# Altium footprint library Phoenix.PcbLib: 19 footprints (part 1 of 2)
Each footprint in its own frame and in the unit in brackets; x right, y up, seen from the top. Pads: shape width x height; smd on the part's side, far side on the other; paste and mask are expansions set on the pad; w line width, h text height; cw(c..) or ccw(c..) is an arc to the next point about the centre after c.
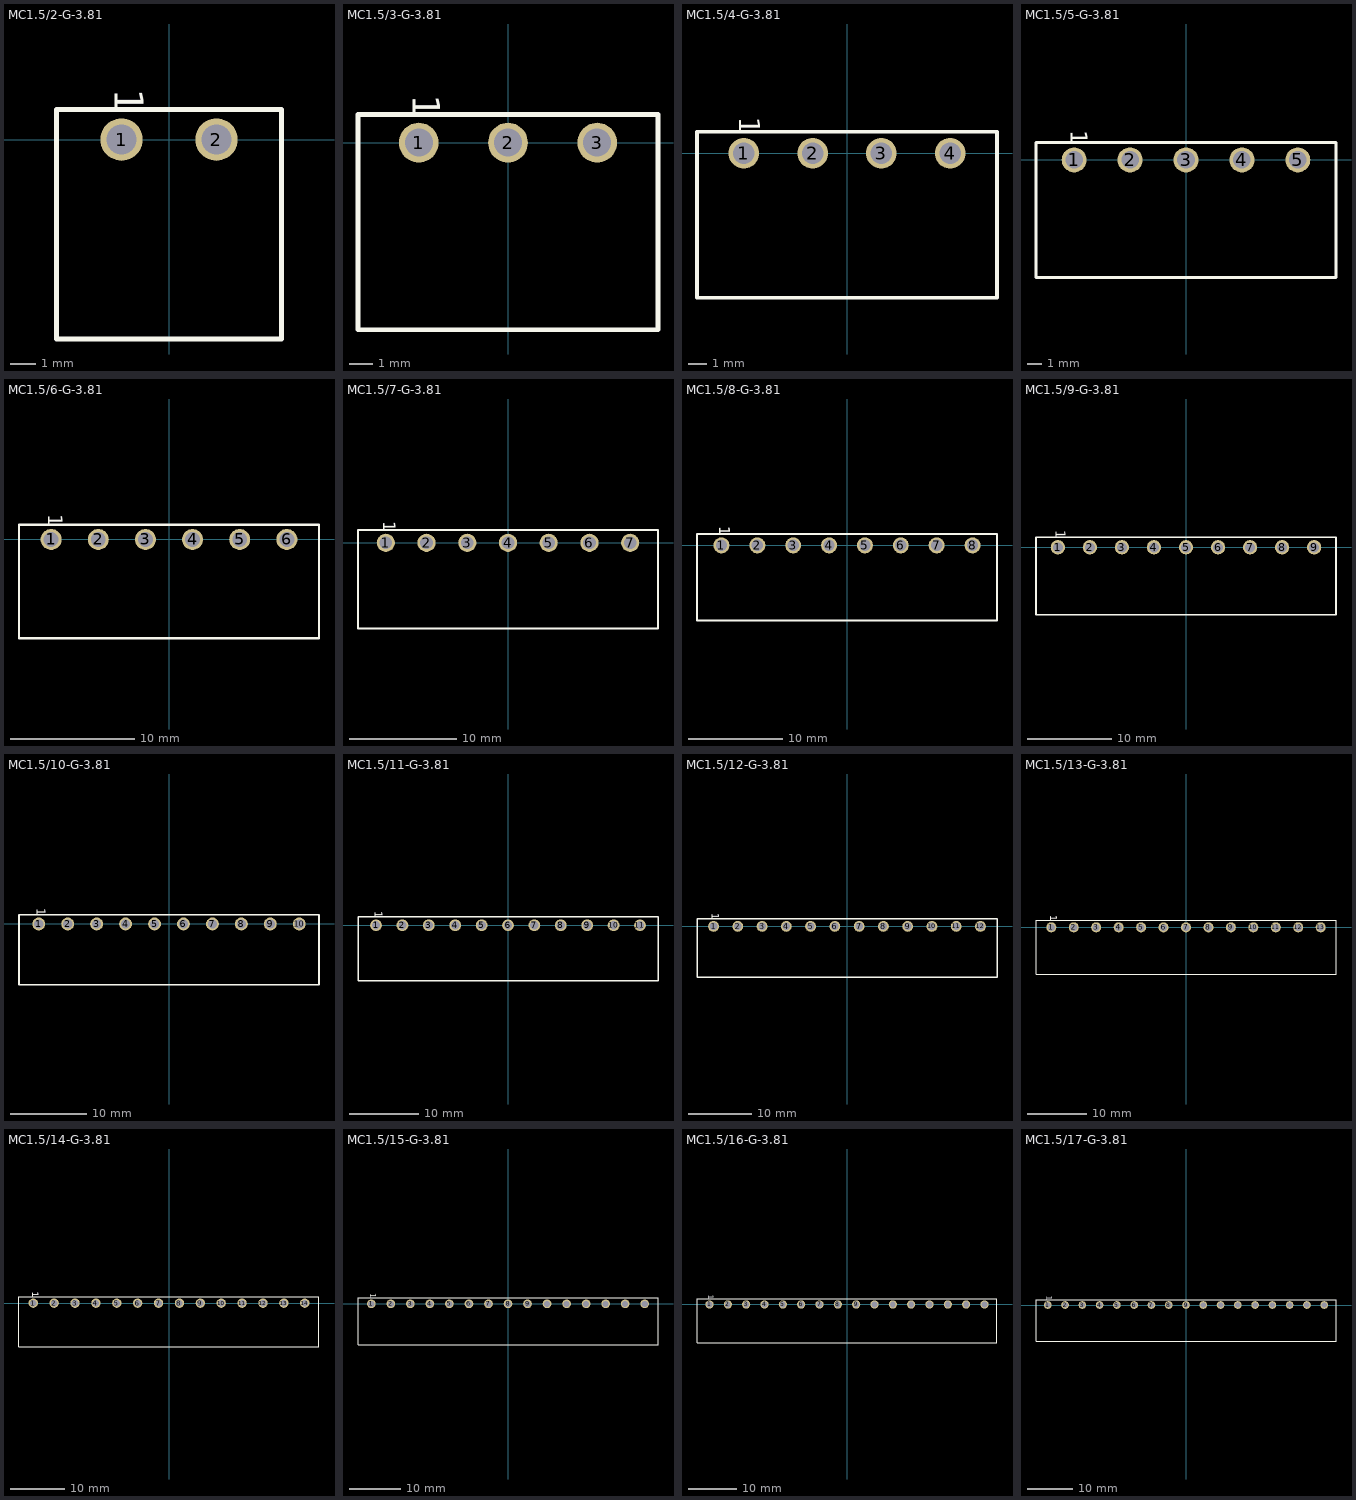
[diagram p0: the footprints below, top view; thin cyan lines are the x and y axes]

## MC1.5/2-G-3.81 [mm] "Phoenix contact MC 1,5/ 2-G-3,81"
pads (2):
  round 1.7 hole 1.2: 1(-1.905,0) 2(1.905,0)
Top Overlay:
  lines w0.2: -4.505,-8 -4.505,1.2 -3.81,1.2 0,1.2 3.81,1.2 4.505,1.2 4.505,-8 3.81,-8 0,-8 -3.81,-8 -4.505,-8
  text "1" at -2.548,2.036 h2
Bottom Overlay:
  text "1" at -2.548,1.064 h2
3D body: height 7.25, standoff 0, extent -4.505,-8 -3.81,1.2
3D body: height 7.25, standoff 0, extent -3.81,-1 0,1.2
3D body: height 7.26, standoff 0.01, extent -3.81,-8 0,-1
3D body: height 7.25, standoff 0, extent 3.81,-8 4.505,1.2
3D body: height 7.25, standoff 0, extent 0,-1 3.81,1.2
3D body: height 3.4, standoff 2.6, extent 1.505,-7 2.305,0.4
3D body: height 3.4, standoff 2.6, extent -2.305,-7 -1.505,0.4
3D body: height 3, standoff -3.4, extent 1.505,-0.4 2.305,0.4
3D body: height 3, standoff -3.4, extent -2.305,-0.4 -1.505,0.4
3D body: height 7.26, standoff 0.01, extent 0,-8 3.81,-1

## MC1.5/3-G-3.81 [mm] "Phoenix contact MC 1,5/ 3-G-3,81"
pads (3):
  round 1.7 hole 1.2: 1(-3.81,0) 2(0,0) 3(3.81,0)
Top Overlay:
  lines w0.2: -6.41,-8 -6.41,1.2 -5.715,1.2 -1.905,1.2 1.905,1.2 5.715,1.2 6.41,1.2 6.41,-8 5.715,-8 1.905,-8 -1.905,-8 -5.715,-8 -6.41,-8
  text "1" at -4.453,2.036 h2
Bottom Overlay:
  text "1" at -4.453,1.064 h2
3D body: height 7.25, standoff 0, extent -6.41,-8 -5.715,1.2
3D body: height 7.25, standoff 0, extent -5.715,-1 -1.905,1.2
3D body: height 7.26, standoff 0.01, extent -5.715,-8 -1.905,-1
3D body: height 7.25, standoff 0, extent 5.715,-8 6.41,1.2
3D body: height 7.25, standoff 0, extent -1.905,-1 1.905,1.2
3D body: height 3.4, standoff 2.6, extent -0.4,-7 0.4,0.4
3D body: height 3.4, standoff 2.6, extent -4.21,-7 -3.41,0.4
3D body: height 3, standoff -3.4, extent -0.4,-0.4 0.4,0.4
3D body: height 3, standoff -3.4, extent -4.21,-0.4 -3.41,0.4
3D body: height 7.26, standoff 0.01, extent -1.905,-8 1.905,-1
3D body: height 7.25, standoff 0, extent 1.905,-1 5.715,1.2
3D body: height 3.4, standoff 2.6, extent 3.41,-7 4.21,0.4
3D body: height 3, standoff -3.4, extent 3.41,-0.4 4.21,0.4
3D body: height 7.26, standoff 0.01, extent 1.905,-8 5.715,-1

## MC1.5/4-G-3.81 [mm] "Phoenix contact MC 1,5/ 4-G-3,81"
pads (4):
  round 1.7 hole 1.2: 1(-5.715,0) 2(-1.905,0) 3(1.905,0) 4(5.715,0)
Top Overlay:
  lines w0.2: -8.315,-8 -7.62,-8 -3.81,-8 0,-8 3.81,-8 7.62,-8 8.315,-8 8.315,1.2 7.62,1.2 3.81,1.2 0,1.2 -3.81,1.2 -7.62,1.2 -8.315,1.2 -8.315,-8
  text "1" at -6.358,2.036 h2
Bottom Overlay:
  text "1" at -6.358,1.064 h2
3D body: height 7.26, standoff 0.01, extent 3.81,-8 7.62,-1
3D body: height 3, standoff -3.4, extent 5.315,-0.4 6.115,0.4
3D body: height 3.4, standoff 2.6, extent 5.315,-7 6.115,0.4
3D body: height 7.25, standoff 0, extent 3.81,-1 7.62,1.2
3D body: height 7.26, standoff 0.01, extent 0,-8 3.81,-1
3D body: height 3, standoff -3.4, extent 1.505,-0.4 2.305,0.4
3D body: height 3.4, standoff 2.6, extent 1.505,-7 2.305,0.4
3D body: height 7.25, standoff 0, extent 0,-1 3.81,1.2
3D body: height 7.26, standoff 0.01, extent -3.81,-8 0,-1
3D body: height 3, standoff -3.4, extent -6.115,-0.4 -5.315,0.4
3D body: height 3, standoff -3.4, extent -2.305,-0.4 -1.505,0.4
3D body: height 3.4, standoff 2.6, extent -6.115,-7 -5.315,0.4
3D body: height 3.4, standoff 2.6, extent -2.305,-7 -1.505,0.4
3D body: height 7.25, standoff 0, extent -3.81,-1 0,1.2
3D body: height 7.25, standoff 0, extent 7.62,-8 8.315,1.2
3D body: height 7.26, standoff 0.01, extent -7.62,-8 -3.81,-1
3D body: height 7.25, standoff 0, extent -7.62,-1 -3.81,1.2
3D body: height 7.25, standoff 0, extent -8.315,-8 -7.62,1.2

## MC1.5/5-G-3.81 [mm] "Phoenix contact MC 1,5/ 5-G-3,81"
pads (5):
  round 1.7 hole 1.2: 1(-7.62,0) 2(-3.81,0) 3(0,0) 4(3.81,0) 5(7.62,0)
Top Overlay:
  lines w0.2: -10.22,-8 -10.22,1.2 -9.525,1.2 -5.715,1.2 -1.905,1.2 1.905,1.2 5.715,1.2 9.525,1.2 10.22,1.2 10.22,-8 9.525,-8 5.715,-8 1.905,-8 -1.905,-8 -5.715,-8 -9.525,-8 -10.22,-8
  text "1" at -8.263,2.036 h2
Bottom Overlay:
  text "1" at -8.263,1.064 h2
3D body: height 7.25, standoff 0, extent 5.715,-1 9.525,1.2
3D body: height 3.4, standoff 2.6, extent 7.22,-7 8.02,0.4
3D body: height 3, standoff -3.4, extent 7.22,-0.4 8.02,0.4
3D body: height 7.26, standoff 0.01, extent 5.715,-8 9.525,-1
3D body: height 7.25, standoff 0, extent -10.22,-8 -9.525,1.2
3D body: height 7.25, standoff 0, extent -9.525,-1 -5.715,1.2
3D body: height 7.26, standoff 0.01, extent -9.525,-8 -5.715,-1
3D body: height 7.25, standoff 0, extent 9.525,-8 10.22,1.2
3D body: height 7.25, standoff 0, extent -5.715,-1 -1.905,1.2
3D body: height 3.4, standoff 2.6, extent -4.21,-7 -3.41,0.4
3D body: height 3.4, standoff 2.6, extent -8.02,-7 -7.22,0.4
3D body: height 3, standoff -3.4, extent -4.21,-0.4 -3.41,0.4
3D body: height 3, standoff -3.4, extent -8.02,-0.4 -7.22,0.4
3D body: height 7.26, standoff 0.01, extent -5.715,-8 -1.905,-1
3D body: height 7.25, standoff 0, extent -1.905,-1 1.905,1.2
3D body: height 3.4, standoff 2.6, extent -0.4,-7 0.4,0.4
3D body: height 3, standoff -3.4, extent -0.4,-0.4 0.4,0.4
3D body: height 7.26, standoff 0.01, extent -1.905,-8 1.905,-1
3D body: height 7.25, standoff 0, extent 1.905,-1 5.715,1.2
3D body: height 3.4, standoff 2.6, extent 3.41,-7 4.21,0.4
3D body: height 3, standoff -3.4, extent 3.41,-0.4 4.21,0.4
3D body: height 7.26, standoff 0.01, extent 1.905,-8 5.715,-1

## MC1.5/6-G-3.81 [mm] "Phoenix contact MC 1,5/ 6-G-3,81"
pads (6):
  round 1.7 hole 1.2: 1(-9.525,0) 2(-5.715,0) 3(-1.905,0) 4(1.905,0) 5(5.715,0) 6(9.525,0)
Top Overlay:
  lines w0.2: -12.125,-8 -12.125,1.2 -11.43,1.2 -7.62,1.2 -3.81,1.2 0,1.2 3.81,1.2 7.62,1.2 11.43,1.2 12.125,1.2 12.125,-8 11.43,-8 7.62,-8 3.81,-8 0,-8 -3.81,-8 -7.62,-8 -11.43,-8 -12.125,-8
  text "1" at -10.168,2.036 h2
Bottom Overlay:
  text "1" at -10.168,1.064 h2
3D body: height 7.25, standoff 0, extent 3.81,-1 7.62,1.2
3D body: height 3.4, standoff 2.6, extent 5.315,-7 6.115,0.4
3D body: height 3, standoff -3.4, extent 5.315,-0.4 6.115,0.4
3D body: height 7.26, standoff 0.01, extent 3.81,-8 7.62,-1
3D body: height 7.25, standoff 0, extent -12.125,-8 -11.43,1.2
3D body: height 7.25, standoff 0, extent -11.43,-1 -7.62,1.2
3D body: height 7.26, standoff 0.01, extent -11.43,-8 -7.62,-1
3D body: height 7.25, standoff 0, extent 11.43,-8 12.125,1.2
3D body: height 7.25, standoff 0, extent -7.62,-1 -3.81,1.2
3D body: height 3.4, standoff 2.6, extent -6.115,-7 -5.315,0.4
3D body: height 3.4, standoff 2.6, extent -9.925,-7 -9.125,0.4
3D body: height 3, standoff -3.4, extent -6.115,-0.4 -5.315,0.4
3D body: height 3, standoff -3.4, extent -9.925,-0.4 -9.125,0.4
3D body: height 7.26, standoff 0.01, extent -7.62,-8 -3.81,-1
3D body: height 7.25, standoff 0, extent -3.81,-1 0,1.2
3D body: height 3.4, standoff 2.6, extent -2.305,-7 -1.505,0.4
3D body: height 3, standoff -3.4, extent -2.305,-0.4 -1.505,0.4
3D body: height 7.26, standoff 0.01, extent -3.81,-8 0,-1
3D body: height 7.25, standoff 0, extent 0,-1 3.81,1.2
3D body: height 3.4, standoff 2.6, extent 1.505,-7 2.305,0.4
3D body: height 3, standoff -3.4, extent 1.505,-0.4 2.305,0.4
3D body: height 7.26, standoff 0.01, extent 0,-8 3.81,-1
3D body: height 7.25, standoff 0, extent 7.62,-1 11.43,1.2
3D body: height 3.4, standoff 2.6, extent 9.125,-7 9.925,0.4
3D body: height 3, standoff -3.4, extent 9.125,-0.4 9.925,0.4
3D body: height 7.26, standoff 0.01, extent 7.62,-8 11.43,-1

## MC1.5/7-G-3.81 [mm] "Phoenix contact MC 1,5/ 7-G-3,81"
pads (7):
  round 1.7 hole 1.2: 1(-11.43,0) 2(-7.62,0) 3(-3.81,0) 4(0,0) 5(3.81,0) 6(7.62,0) 7(11.43,0)
Top Overlay:
  lines w0.2: -14.03,-8 -14.03,1.2 -13.335,1.2 -9.525,1.2 -5.715,1.2 -1.905,1.2 1.905,1.2 5.715,1.2 9.525,1.2 13.335,1.2 14.03,1.2 14.03,-8 13.335,-8 9.525,-8 5.715,-8 1.905,-8 -1.905,-8 -5.715,-8 -9.525,-8 -13.335,-8 -14.03,-8
  text "1" at -12.073,2.036 h2
Bottom Overlay:
  text "1" at -12.073,1.064 h2
3D body: height 7.25, standoff 0, extent 1.905,-1 5.715,1.2
3D body: height 3.4, standoff 2.6, extent 3.41,-7 4.21,0.4
3D body: height 3, standoff -3.4, extent 3.41,-0.4 4.21,0.4
3D body: height 7.26, standoff 0.01, extent 1.905,-8 5.715,-1
3D body: height 7.25, standoff 0, extent -14.03,-8 -13.335,1.2
3D body: height 7.25, standoff 0, extent -13.335,-1 -9.525,1.2
3D body: height 7.26, standoff 0.01, extent -13.335,-8 -9.525,-1
3D body: height 7.25, standoff 0, extent 13.335,-8 14.03,1.2
3D body: height 7.25, standoff 0, extent -9.525,-1 -5.715,1.2
3D body: height 3.4, standoff 2.6, extent -8.02,-7 -7.22,0.4
3D body: height 3.4, standoff 2.6, extent -11.83,-7 -11.03,0.4
3D body: height 3, standoff -3.4, extent -8.02,-0.4 -7.22,0.4
3D body: height 3, standoff -3.4, extent -11.83,-0.4 -11.03,0.4
3D body: height 7.26, standoff 0.01, extent -9.525,-8 -5.715,-1
3D body: height 7.25, standoff 0, extent -5.715,-1 -1.905,1.2
3D body: height 3.4, standoff 2.6, extent -4.21,-7 -3.41,0.4
3D body: height 3, standoff -3.4, extent -4.21,-0.4 -3.41,0.4
3D body: height 7.26, standoff 0.01, extent -5.715,-8 -1.905,-1
3D body: height 7.25, standoff 0, extent -1.905,-1 1.905,1.2
3D body: height 3.4, standoff 2.6, extent -0.4,-7 0.4,0.4
3D body: height 3, standoff -3.4, extent -0.4,-0.4 0.4,0.4
3D body: height 7.26, standoff 0.01, extent -1.905,-8 1.905,-1
3D body: height 7.25, standoff 0, extent 5.715,-1 9.525,1.2
3D body: height 3.4, standoff 2.6, extent 7.22,-7 8.02,0.4
3D body: height 3, standoff -3.4, extent 7.22,-0.4 8.02,0.4
3D body: height 7.26, standoff 0.01, extent 5.715,-8 9.525,-1
3D body: height 7.25, standoff 0, extent 9.525,-1 13.335,1.2
3D body: height 3.4, standoff 2.6, extent 11.03,-7 11.83,0.4
3D body: height 3, standoff -3.4, extent 11.03,-0.4 11.83,0.4
3D body: height 7.26, standoff 0.01, extent 9.525,-8 13.335,-1

## MC1.5/8-G-3.81 [mm] "Phoenix contact MC 1,5/ 8-G-3,81"
pads (8):
  round 1.7 hole 1.2: 1(-13.335,0) 2(-9.525,0) 3(-5.715,0) 4(-1.905,0) 5(1.905,0) 6(5.715,0) 7(9.525,0) 8(13.335,0)
Top Overlay:
  lines w0.2: -15.935,-8 -15.935,1.2 -15.24,1.2 -11.43,1.2 -7.62,1.2 -3.81,1.2 0,1.2 3.81,1.2 7.62,1.2 11.43,1.2 15.24,1.2 15.935,1.2 15.935,-8 15.24,-8 11.43,-8 7.62,-8 3.81,-8 0,-8 -3.81,-8 -7.62,-8 -11.43,-8 -15.24,-8 -15.935,-8
  text "1" at -13.978,2.036 h2
Bottom Overlay:
  text "1" at -13.978,1.064 h2
3D body: height 7.25, standoff 0, extent 11.43,-1 15.24,1.2
3D body: height 3.4, standoff 2.6, extent 12.935,-7 13.735,0.4
3D body: height 3, standoff -3.4, extent 12.935,-0.4 13.735,0.4
3D body: height 7.26, standoff 0.01, extent 11.43,-8 15.24,-1
3D body: height 7.25, standoff 0, extent 0,-1 3.81,1.2
3D body: height 3.4, standoff 2.6, extent 1.505,-7 2.305,0.4
3D body: height 3, standoff -3.4, extent 1.505,-0.4 2.305,0.4
3D body: height 7.26, standoff 0.01, extent 0,-8 3.81,-1
3D body: height 7.25, standoff 0, extent -15.935,-8 -15.24,1.2
3D body: height 7.25, standoff 0, extent -15.24,-1 -11.43,1.2
3D body: height 7.26, standoff 0.01, extent -15.24,-8 -11.43,-1
3D body: height 7.25, standoff 0, extent 15.24,-8 15.935,1.2
3D body: height 7.25, standoff 0, extent -11.43,-1 -7.62,1.2
3D body: height 3.4, standoff 2.6, extent -9.925,-7 -9.125,0.4
3D body: height 3.4, standoff 2.6, extent -13.735,-7 -12.935,0.4
3D body: height 3, standoff -3.4, extent -9.925,-0.4 -9.125,0.4
3D body: height 3, standoff -3.4, extent -13.735,-0.4 -12.935,0.4
3D body: height 7.26, standoff 0.01, extent -11.43,-8 -7.62,-1
3D body: height 7.25, standoff 0, extent -7.62,-1 -3.81,1.2
3D body: height 3.4, standoff 2.6, extent -6.115,-7 -5.315,0.4
3D body: height 3, standoff -3.4, extent -6.115,-0.4 -5.315,0.4
3D body: height 7.26, standoff 0.01, extent -7.62,-8 -3.81,-1
3D body: height 7.25, standoff 0, extent -3.81,-1 0,1.2
3D body: height 3.4, standoff 2.6, extent -2.305,-7 -1.505,0.4
3D body: height 3, standoff -3.4, extent -2.305,-0.4 -1.505,0.4
3D body: height 7.26, standoff 0.01, extent -3.81,-8 0,-1
3D body: height 7.25, standoff 0, extent 3.81,-1 7.62,1.2
3D body: height 3.4, standoff 2.6, extent 5.315,-7 6.115,0.4
3D body: height 3, standoff -3.4, extent 5.315,-0.4 6.115,0.4
3D body: height 7.26, standoff 0.01, extent 3.81,-8 7.62,-1
3D body: height 7.25, standoff 0, extent 7.62,-1 11.43,1.2
3D body: height 3.4, standoff 2.6, extent 9.125,-7 9.925,0.4
3D body: height 3, standoff -3.4, extent 9.125,-0.4 9.925,0.4
3D body: height 7.26, standoff 0.01, extent 7.62,-8 11.43,-1

## MC1.5/9-G-3.81 [mm] "Phoenix contact MC 1,5/ 9-G-3,81"
pads (9):
  round 1.7 hole 1.2: 1(-15.24,0) 2(-11.43,0) 3(-7.62,0) 4(-3.81,0) 5(0,0) 6(3.81,0) 7(7.62,0) 8(11.43,0) 9(15.24,0)
Top Overlay:
  lines w0.2: -17.84,-8 -17.84,1.2 -17.145,1.2 -13.335,1.2 -9.525,1.2 -5.715,1.2 -1.905,1.2 1.905,1.2 5.715,1.2 9.525,1.2 13.335,1.2 17.145,1.2 17.84,1.2 17.84,-8 17.145,-8 13.335,-8 9.525,-8 5.715,-8 1.905,-8 -1.905,-8 -5.715,-8 -9.525,-8 -13.335,-8 -17.145,-8 -17.84,-8
  text "1" at -15.883,2.036 h2
Bottom Overlay:
  text "1" at -15.883,1.064 h2
3D body: height 7.25, standoff 0, extent 9.525,-1 13.335,1.2
3D body: height 3.4, standoff 2.6, extent 11.03,-7 11.83,0.4
3D body: height 3, standoff -3.4, extent 11.03,-0.4 11.83,0.4
3D body: height 7.26, standoff 0.01, extent 9.525,-8 13.335,-1
3D body: height 7.25, standoff 0, extent -1.905,-1 1.905,1.2
3D body: height 3.4, standoff 2.6, extent -0.4,-7 0.4,0.4
3D body: height 3, standoff -3.4, extent -0.4,-0.4 0.4,0.4
3D body: height 7.26, standoff 0.01, extent -1.905,-8 1.905,-1
3D body: height 7.25, standoff 0, extent -17.84,-8 -17.145,1.2
3D body: height 7.25, standoff 0, extent -17.145,-1 -13.335,1.2
3D body: height 7.26, standoff 0.01, extent -17.145,-8 -13.335,-1
3D body: height 7.25, standoff 0, extent 17.145,-8 17.84,1.2
3D body: height 7.25, standoff 0, extent -13.335,-1 -9.525,1.2
3D body: height 3.4, standoff 2.6, extent -11.83,-7 -11.03,0.4
3D body: height 3.4, standoff 2.6, extent -15.64,-7 -14.84,0.4
3D body: height 3, standoff -3.4, extent -11.83,-0.4 -11.03,0.4
3D body: height 3, standoff -3.4, extent -15.64,-0.4 -14.84,0.4
3D body: height 7.26, standoff 0.01, extent -13.335,-8 -9.525,-1
3D body: height 7.25, standoff 0, extent -9.525,-1 -5.715,1.2
3D body: height 3.4, standoff 2.6, extent -8.02,-7 -7.22,0.4
3D body: height 3, standoff -3.4, extent -8.02,-0.4 -7.22,0.4
3D body: height 7.26, standoff 0.01, extent -9.525,-8 -5.715,-1
3D body: height 7.25, standoff 0, extent -5.715,-1 -1.905,1.2
3D body: height 3.4, standoff 2.6, extent -4.21,-7 -3.41,0.4
3D body: height 3, standoff -3.4, extent -4.21,-0.4 -3.41,0.4
3D body: height 7.26, standoff 0.01, extent -5.715,-8 -1.905,-1
3D body: height 7.25, standoff 0, extent 1.905,-1 5.715,1.2
3D body: height 3.4, standoff 2.6, extent 3.41,-7 4.21,0.4
3D body: height 3, standoff -3.4, extent 3.41,-0.4 4.21,0.4
3D body: height 7.26, standoff 0.01, extent 1.905,-8 5.715,-1
3D body: height 7.25, standoff 0, extent 5.715,-1 9.525,1.2
3D body: height 3.4, standoff 2.6, extent 7.22,-7 8.02,0.4
3D body: height 3, standoff -3.4, extent 7.22,-0.4 8.02,0.4
3D body: height 7.26, standoff 0.01, extent 5.715,-8 9.525,-1
3D body: height 7.25, standoff 0, extent 13.335,-1 17.145,1.2
3D body: height 3.4, standoff 2.6, extent 14.84,-7 15.64,0.4
3D body: height 3, standoff -3.4, extent 14.84,-0.4 15.64,0.4
3D body: height 7.26, standoff 0.01, extent 13.335,-8 17.145,-1

## MC1.5/10-G-3.81 [mm] "Phoenix contact MC 1,5/ 10-G-3,81"
pads (10):
  round 1.7 hole 1.2: 1(-17.145,0) 2(-13.335,0) 3(-9.525,0) 4(-5.715,0) 5(-1.905,0) 6(1.905,0) 7(5.715,0) 8(9.525,0) 9(13.335,0) 10(17.145,0)
Top Overlay:
  lines w0.2: -19.745,-8 -19.05,-8 -15.24,-8 -11.43,-8 -7.62,-8 -3.81,-8 0,-8 3.81,-8 7.62,-8 11.43,-8 15.24,-8 19.05,-8 19.745,-8 19.745,1.2 19.05,1.2 15.24,1.2 11.43,1.2 7.62,1.2 3.81,1.2 0,1.2 -3.81,1.2 -7.62,1.2 -11.43,1.2 -15.24,1.2 -19.05,1.2 -19.745,1.2 -19.745,-8
  text "1" at -17.788,2.036 h2
Bottom Overlay:
  text "1" at -17.788,1.064 h2
3D body: height 7.26, standoff 0.01, extent 15.24,-8 19.05,-1
3D body: height 3, standoff -3.4, extent 16.745,-0.4 17.545,0.4
3D body: height 3.4, standoff 2.6, extent 16.745,-7 17.545,0.4
3D body: height 7.25, standoff 0, extent 15.24,-1 19.05,1.2
3D body: height 7.26, standoff 0.01, extent 11.43,-8 15.24,-1
3D body: height 3, standoff -3.4, extent 12.935,-0.4 13.735,0.4
3D body: height 3.4, standoff 2.6, extent 12.935,-7 13.735,0.4
3D body: height 7.25, standoff 0, extent 11.43,-1 15.24,1.2
3D body: height 7.26, standoff 0.01, extent 3.81,-8 7.62,-1
3D body: height 3, standoff -3.4, extent 5.315,-0.4 6.115,0.4
3D body: height 3.4, standoff 2.6, extent 5.315,-7 6.115,0.4
3D body: height 7.25, standoff 0, extent 3.81,-1 7.62,1.2
3D body: height 7.26, standoff 0.01, extent 0,-8 3.81,-1
3D body: height 3, standoff -3.4, extent 1.505,-0.4 2.305,0.4
3D body: height 3.4, standoff 2.6, extent 1.505,-7 2.305,0.4
3D body: height 7.25, standoff 0, extent 0,-1 3.81,1.2
3D body: height 7.26, standoff 0.01, extent -7.62,-8 -3.81,-1
3D body: height 3, standoff -3.4, extent -6.115,-0.4 -5.315,0.4
3D body: height 3.4, standoff 2.6, extent -6.115,-7 -5.315,0.4
3D body: height 7.25, standoff 0, extent -7.62,-1 -3.81,1.2
3D body: height 7.26, standoff 0.01, extent -11.43,-8 -7.62,-1
3D body: height 3, standoff -3.4, extent -9.925,-0.4 -9.125,0.4
3D body: height 3.4, standoff 2.6, extent -9.925,-7 -9.125,0.4
3D body: height 7.25, standoff 0, extent -11.43,-1 -7.62,1.2
3D body: height 7.26, standoff 0.01, extent -15.24,-8 -11.43,-1
3D body: height 3, standoff -3.4, extent -17.545,-0.4 -16.745,0.4
3D body: height 3, standoff -3.4, extent -13.735,-0.4 -12.935,0.4
3D body: height 3.4, standoff 2.6, extent -17.545,-7 -16.745,0.4
3D body: height 3.4, standoff 2.6, extent -13.735,-7 -12.935,0.4
3D body: height 7.25, standoff 0, extent -15.24,-1 -11.43,1.2
3D body: height 7.25, standoff 0, extent 19.05,-8 19.745,1.2
3D body: height 7.26, standoff 0.01, extent -19.05,-8 -15.24,-1
3D body: height 7.25, standoff 0, extent -19.05,-1 -15.24,1.2
3D body: height 7.25, standoff 0, extent -19.745,-8 -19.05,1.2
3D body: height 7.26, standoff 0.01, extent -3.81,-8 0,-1
3D body: height 3, standoff -3.4, extent -2.305,-0.4 -1.505,0.4
3D body: height 3.4, standoff 2.6, extent -2.305,-7 -1.505,0.4
3D body: height 7.25, standoff 0, extent -3.81,-1 0,1.2
3D body: height 7.26, standoff 0.01, extent 7.62,-8 11.43,-1
3D body: height 3, standoff -3.4, extent 9.125,-0.4 9.925,0.4
3D body: height 3.4, standoff 2.6, extent 9.125,-7 9.925,0.4
3D body: height 7.25, standoff 0, extent 7.62,-1 11.43,1.2

## MC1.5/11-G-3.81 [mm] "Phoenix contact MC 1,5/ 11-G-3,81"
pads (11):
  round 1.7 hole 1.2: 1(-19.05,0) 2(-15.24,0) 3(-11.43,0) 4(-7.62,0) 5(-3.81,0) 6(0,0) 7(3.81,0) 8(7.62,0) 9(11.43,0) 10(15.24,0) 11(19.05,0)
Top Overlay:
  lines w0.2: -21.65,-8 -20.955,-8 -17.145,-8 -13.335,-8 -9.525,-8 -5.715,-8 -1.905,-8 1.905,-8 5.715,-8 9.525,-8 13.335,-8 17.145,-8 20.955,-8 21.65,-8 21.65,1.2 20.955,1.2 17.145,1.2 13.335,1.2 9.525,1.2 5.715,1.2 1.905,1.2 -1.905,1.2 -5.715,1.2 -9.525,1.2 -13.335,1.2 -17.145,1.2 -20.955,1.2 -21.65,1.2 -21.65,-8
  text "1" at -19.693,2.036 h2
Bottom Overlay:
  text "1" at -19.693,1.064 h2
3D body: height 7.26, standoff 0.01, extent 17.145,-8 20.955,-1
3D body: height 3, standoff -3.4, extent 18.65,-0.4 19.45,0.4
3D body: height 3.4, standoff 2.6, extent 18.65,-7 19.45,0.4
3D body: height 7.25, standoff 0, extent 17.145,-1 20.955,1.2
3D body: height 7.26, standoff 0.01, extent 13.335,-8 17.145,-1
3D body: height 3, standoff -3.4, extent 14.84,-0.4 15.64,0.4
3D body: height 3.4, standoff 2.6, extent 14.84,-7 15.64,0.4
3D body: height 7.25, standoff 0, extent 13.335,-1 17.145,1.2
3D body: height 7.26, standoff 0.01, extent 9.525,-8 13.335,-1
3D body: height 3, standoff -3.4, extent 11.03,-0.4 11.83,0.4
3D body: height 3.4, standoff 2.6, extent 11.03,-7 11.83,0.4
3D body: height 7.25, standoff 0, extent 9.525,-1 13.335,1.2
3D body: height 7.26, standoff 0.01, extent 1.905,-8 5.715,-1
3D body: height 3, standoff -3.4, extent 3.41,-0.4 4.21,0.4
3D body: height 3.4, standoff 2.6, extent 3.41,-7 4.21,0.4
3D body: height 7.25, standoff 0, extent 1.905,-1 5.715,1.2
3D body: height 7.26, standoff 0.01, extent -1.905,-8 1.905,-1
3D body: height 3, standoff -3.4, extent -0.4,-0.4 0.4,0.4
3D body: height 3.4, standoff 2.6, extent -0.4,-7 0.4,0.4
3D body: height 7.25, standoff 0, extent -1.905,-1 1.905,1.2
3D body: height 7.26, standoff 0.01, extent -9.525,-8 -5.715,-1
3D body: height 3, standoff -3.4, extent -8.02,-0.4 -7.22,0.4
3D body: height 3.4, standoff 2.6, extent -8.02,-7 -7.22,0.4
3D body: height 7.25, standoff 0, extent -9.525,-1 -5.715,1.2
3D body: height 7.26, standoff 0.01, extent -13.335,-8 -9.525,-1
3D body: height 3, standoff -3.4, extent -11.83,-0.4 -11.03,0.4
3D body: height 3.4, standoff 2.6, extent -11.83,-7 -11.03,0.4
3D body: height 7.25, standoff 0, extent -13.335,-1 -9.525,1.2
3D body: height 7.26, standoff 0.01, extent -17.145,-8 -13.335,-1
3D body: height 3, standoff -3.4, extent -19.45,-0.4 -18.65,0.4
3D body: height 3, standoff -3.4, extent -15.64,-0.4 -14.84,0.4
3D body: height 3.4, standoff 2.6, extent -19.45,-7 -18.65,0.4
3D body: height 3.4, standoff 2.6, extent -15.64,-7 -14.84,0.4
3D body: height 7.25, standoff 0, extent -17.145,-1 -13.335,1.2
3D body: height 7.25, standoff 0, extent 20.955,-8 21.65,1.2
3D body: height 7.26, standoff 0.01, extent -20.955,-8 -17.145,-1
3D body: height 7.25, standoff 0, extent -20.955,-1 -17.145,1.2
3D body: height 7.25, standoff 0, extent -21.65,-8 -20.955,1.2
3D body: height 7.26, standoff 0.01, extent -5.715,-8 -1.905,-1
3D body: height 3, standoff -3.4, extent -4.21,-0.4 -3.41,0.4
3D body: height 3.4, standoff 2.6, extent -4.21,-7 -3.41,0.4
3D body: height 7.25, standoff 0, extent -5.715,-1 -1.905,1.2
3D body: height 7.26, standoff 0.01, extent 5.715,-8 9.525,-1
3D body: height 3, standoff -3.4, extent 7.22,-0.4 8.02,0.4
3D body: height 3.4, standoff 2.6, extent 7.22,-7 8.02,0.4
3D body: height 7.25, standoff 0, extent 5.715,-1 9.525,1.2

## MC1.5/12-G-3.81 [mm] "Phoenix contact MC 1,5/ 12-G-3,81"
pads (12):
  round 1.7 hole 1.2: 1(-20.955,0) 2(-17.145,0) 3(-13.335,0) 4(-9.525,0) 5(-5.715,0) 6(-1.905,0) 7(1.905,0) 8(5.715,0) 9(9.525,0) 10(13.335,0) 11(17.145,0) 12(20.955,0)
Top Overlay:
  lines w0.2: -23.555,-8 -23.555,1.2 -22.86,1.2 -19.05,1.2 -15.24,1.2 -11.43,1.2 -7.62,1.2 -3.81,1.2 0,1.2 3.81,1.2 7.62,1.2 11.43,1.2 15.24,1.2 19.05,1.2 22.86,1.2 23.555,1.2 23.555,-8 22.86,-8 19.05,-8 15.24,-8 11.43,-8 7.62,-8 3.81,-8 0,-8 -3.81,-8 -7.62,-8 -11.43,-8 -15.24,-8 -19.05,-8 -22.86,-8 -23.555,-8
  text "1" at -21.598,2.036 h2
Bottom Overlay:
  text "1" at -21.598,1.064 h2
3D body: height 7.25, standoff 0, extent 3.81,-1 7.62,1.2
3D body: height 3.4, standoff 2.6, extent 5.315,-7 6.115,0.4
3D body: height 3, standoff -3.4, extent 5.315,-0.4 6.115,0.4
3D body: height 7.26, standoff 0.01, extent 3.81,-8 7.62,-1
3D body: height 7.25, standoff 0, extent -7.62,-1 -3.81,1.2
3D body: height 3.4, standoff 2.6, extent -6.115,-7 -5.315,0.4
3D body: height 3, standoff -3.4, extent -6.115,-0.4 -5.315,0.4
3D body: height 7.26, standoff 0.01, extent -7.62,-8 -3.81,-1
3D body: height 7.25, standoff 0, extent -23.555,-8 -22.86,1.2
3D body: height 7.25, standoff 0, extent -22.86,-1 -19.05,1.2
3D body: height 7.26, standoff 0.01, extent -22.86,-8 -19.05,-1
3D body: height 7.25, standoff 0, extent 22.86,-8 23.555,1.2
3D body: height 7.25, standoff 0, extent -19.05,-1 -15.24,1.2
3D body: height 3.4, standoff 2.6, extent -17.545,-7 -16.745,0.4
3D body: height 3.4, standoff 2.6, extent -21.355,-7 -20.555,0.4
3D body: height 3, standoff -3.4, extent -17.545,-0.4 -16.745,0.4
3D body: height 3, standoff -3.4, extent -21.355,-0.4 -20.555,0.4
3D body: height 7.26, standoff 0.01, extent -19.05,-8 -15.24,-1
3D body: height 7.25, standoff 0, extent -15.24,-1 -11.43,1.2
3D body: height 3.4, standoff 2.6, extent -13.735,-7 -12.935,0.4
3D body: height 3, standoff -3.4, extent -13.735,-0.4 -12.935,0.4
3D body: height 7.26, standoff 0.01, extent -15.24,-8 -11.43,-1
3D body: height 7.25, standoff 0, extent -11.43,-1 -7.62,1.2
3D body: height 3.4, standoff 2.6, extent -9.925,-7 -9.125,0.4
3D body: height 3, standoff -3.4, extent -9.925,-0.4 -9.125,0.4
3D body: height 7.26, standoff 0.01, extent -11.43,-8 -7.62,-1
3D body: height 7.25, standoff 0, extent -3.81,-1 0,1.2
3D body: height 3.4, standoff 2.6, extent -2.305,-7 -1.505,0.4
3D body: height 3, standoff -3.4, extent -2.305,-0.4 -1.505,0.4
3D body: height 7.26, standoff 0.01, extent -3.81,-8 0,-1
3D body: height 7.25, standoff 0, extent 0,-1 3.81,1.2
3D body: height 3.4, standoff 2.6, extent 1.505,-7 2.305,0.4
3D body: height 3, standoff -3.4, extent 1.505,-0.4 2.305,0.4
3D body: height 7.26, standoff 0.01, extent 0,-8 3.81,-1
3D body: height 7.25, standoff 0, extent 7.62,-1 11.43,1.2
3D body: height 3.4, standoff 2.6, extent 9.125,-7 9.925,0.4
3D body: height 3, standoff -3.4, extent 9.125,-0.4 9.925,0.4
3D body: height 7.26, standoff 0.01, extent 7.62,-8 11.43,-1
3D body: height 7.25, standoff 0, extent 11.43,-1 15.24,1.2
3D body: height 3.4, standoff 2.6, extent 12.935,-7 13.735,0.4
3D body: height 3, standoff -3.4, extent 12.935,-0.4 13.735,0.4
3D body: height 7.26, standoff 0.01, extent 11.43,-8 15.24,-1
3D body: height 7.25, standoff 0, extent 15.24,-1 19.05,1.2
3D body: height 3.4, standoff 2.6, extent 16.745,-7 17.545,0.4
3D body: height 3, standoff -3.4, extent 16.745,-0.4 17.545,0.4
3D body: height 7.26, standoff 0.01, extent 15.24,-8 19.05,-1
3D body: height 7.25, standoff 0, extent 19.05,-1 22.86,1.2
3D body: height 3.4, standoff 2.6, extent 20.555,-7 21.355,0.4
3D body: height 3, standoff -3.4, extent 20.555,-0.4 21.355,0.4
3D body: height 7.26, standoff 0.01, extent 19.05,-8 22.86,-1

## MC1.5/13-G-3.81 [mm] "Phoenix contact MC 1,5/ 13-G-3,81"
pads (13):
  round 1.7 hole 1.2: 1(-22.86,0) 2(-19.05,0) 3(-15.24,0) 4(-11.43,0) 5(-7.62,0) 6(-3.81,0) 7(0,0) 8(3.81,0) 9(7.62,0) 10(11.43,0) 11(15.24,0) 12(19.05,0) 13(22.86,0)
Top Overlay:
  lines w0.2: -25.46,-8 -24.765,-8 -20.955,-8 -17.145,-8 -13.335,-8 -9.525,-8 -5.715,-8 -1.905,-8 1.905,-8 5.715,-8 9.525,-8 13.335,-8 17.145,-8 20.955,-8 24.765,-8 25.46,-8 25.46,1.2 24.765,1.2 20.955,1.2 17.145,1.2 13.335,1.2 9.525,1.2 5.715,1.2 1.905,1.2 -1.905,1.2 -5.715,1.2 -9.525,1.2 -13.335,1.2 -17.145,1.2 -20.955,1.2 -24.765,1.2 -25.46,1.2 -25.46,-8
  text "1" at -23.503,2.036 h2
Bottom Overlay:
  text "1" at -23.503,1.064 h2
3D body: height 7.26, standoff 0.01, extent 17.145,-8 20.955,-1
3D body: height 3, standoff -3.4, extent 18.65,-0.4 19.45,0.4
3D body: height 3.4, standoff 2.6, extent 18.65,-7 19.45,0.4
3D body: height 7.25, standoff 0, extent 17.145,-1 20.955,1.2
3D body: height 7.26, standoff 0.01, extent 13.335,-8 17.145,-1
3D body: height 3, standoff -3.4, extent 14.84,-0.4 15.64,0.4
3D body: height 3.4, standoff 2.6, extent 14.84,-7 15.64,0.4
3D body: height 7.25, standoff 0, extent 13.335,-1 17.145,1.2
3D body: height 7.26, standoff 0.01, extent 9.525,-8 13.335,-1
3D body: height 3, standoff -3.4, extent 11.03,-0.4 11.83,0.4
3D body: height 3.4, standoff 2.6, extent 11.03,-7 11.83,0.4
3D body: height 7.25, standoff 0, extent 9.525,-1 13.335,1.2
3D body: height 7.26, standoff 0.01, extent 5.715,-8 9.525,-1
3D body: height 3, standoff -3.4, extent 7.22,-0.4 8.02,0.4
3D body: height 3.4, standoff 2.6, extent 7.22,-7 8.02,0.4
3D body: height 7.25, standoff 0, extent 5.715,-1 9.525,1.2
3D body: height 7.26, standoff 0.01, extent -1.905,-8 1.905,-1
3D body: height 3, standoff -3.4, extent -0.4,-0.4 0.4,0.4
3D body: height 3.4, standoff 2.6, extent -0.4,-7 0.4,0.4
3D body: height 7.25, standoff 0, extent -1.905,-1 1.905,1.2
3D body: height 7.26, standoff 0.01, extent -5.715,-8 -1.905,-1
3D body: height 3, standoff -3.4, extent -4.21,-0.4 -3.41,0.4
3D body: height 3.4, standoff 2.6, extent -4.21,-7 -3.41,0.4
3D body: height 7.25, standoff 0, extent -5.715,-1 -1.905,1.2
3D body: height 7.26, standoff 0.01, extent -13.335,-8 -9.525,-1
3D body: height 3, standoff -3.4, extent -11.83,-0.4 -11.03,0.4
3D body: height 3.4, standoff 2.6, extent -11.83,-7 -11.03,0.4
3D body: height 7.25, standoff 0, extent -13.335,-1 -9.525,1.2
3D body: height 7.26, standoff 0.01, extent -17.145,-8 -13.335,-1
3D body: height 3, standoff -3.4, extent -15.64,-0.4 -14.84,0.4
3D body: height 3.4, standoff 2.6, extent -15.64,-7 -14.84,0.4
3D body: height 7.25, standoff 0, extent -17.145,-1 -13.335,1.2
3D body: height 7.26, standoff 0.01, extent -20.955,-8 -17.145,-1
3D body: height 3, standoff -3.4, extent -23.26,-0.4 -22.46,0.4
3D body: height 3, standoff -3.4, extent -19.45,-0.4 -18.65,0.4
3D body: height 3.4, standoff 2.6, extent -23.26,-7 -22.46,0.4
3D body: height 3.4, standoff 2.6, extent -19.45,-7 -18.65,0.4
3D body: height 7.25, standoff 0, extent -20.955,-1 -17.145,1.2
3D body: height 7.25, standoff 0, extent 24.765,-8 25.46,1.2
3D body: height 7.26, standoff 0.01, extent -24.765,-8 -20.955,-1
3D body: height 7.25, standoff 0, extent -24.765,-1 -20.955,1.2
3D body: height 7.25, standoff 0, extent -25.46,-8 -24.765,1.2
3D body: height 7.26, standoff 0.01, extent -9.525,-8 -5.715,-1
3D body: height 3, standoff -3.4, extent -8.02,-0.4 -7.22,0.4
3D body: height 3.4, standoff 2.6, extent -8.02,-7 -7.22,0.4
3D body: height 7.25, standoff 0, extent -9.525,-1 -5.715,1.2
3D body: height 7.26, standoff 0.01, extent 1.905,-8 5.715,-1
3D body: height 3, standoff -3.4, extent 3.41,-0.4 4.21,0.4
3D body: height 3.4, standoff 2.6, extent 3.41,-7 4.21,0.4
3D body: height 7.25, standoff 0, extent 1.905,-1 5.715,1.2
3D body: height 7.26, standoff 0.01, extent 20.955,-8 24.765,-1
3D body: height 3, standoff -3.4, extent 22.46,-0.4 23.26,0.4
3D body: height 3.4, standoff 2.6, extent 22.46,-7 23.26,0.4
3D body: height 7.25, standoff 0, extent 20.955,-1 24.765,1.2

## MC1.5/14-G-3.81 [mm] "Phoenix contact MC 1,5/ 14-G-3,81"
pads (14):
  round 1.7 hole 1.2: 1(-24.765,0) 2(-20.955,0) 3(-17.145,0) 4(-13.335,0) 5(-9.525,0) 6(-5.715,0) 7(-1.905,0) 8(1.905,0) 9(5.715,0) 10(9.525,0) 11(13.335,0) 12(17.145,0) 13(20.955,0) 14(24.765,0)
Top Overlay:
  lines w0.2: -27.365,-8 -26.67,-8 -22.86,-8 -19.05,-8 -15.24,-8 -11.43,-8 -7.62,-8 -3.81,-8 0,-8 3.81,-8 7.62,-8 11.43,-8 15.24,-8 19.05,-8 22.86,-8 26.67,-8 27.365,-8 27.365,1.2 26.67,1.2 22.86,1.2 19.05,1.2 15.24,1.2 11.43,1.2 7.62,1.2 3.81,1.2 0,1.2 -3.81,1.2 -7.62,1.2 -11.43,1.2 -15.24,1.2 -19.05,1.2 -22.86,1.2 -26.67,1.2 -27.365,1.2 -27.365,-8
  text "1" at -25.408,2.036 h2
Bottom Overlay:
  text "1" at -25.408,1.064 h2
3D body: height 7.26, standoff 0.01, extent 22.86,-8 26.67,-1
3D body: height 3, standoff -3.4, extent 24.365,-0.4 25.165,0.4
3D body: height 3.4, standoff 2.6, extent 24.365,-7 25.165,0.4
3D body: height 7.25, standoff 0, extent 22.86,-1 26.67,1.2
3D body: height 7.25, standoff 0, extent 26.67,-8 27.365,1.2
3D body: height 7.26, standoff 0.01, extent 15.24,-8 19.05,-1
3D body: height 3, standoff -3.4, extent 16.745,-0.4 17.545,0.4
3D body: height 3.4, standoff 2.6, extent 16.745,-7 17.545,0.4
3D body: height 7.25, standoff 0, extent 15.24,-1 19.05,1.2
3D body: height 7.26, standoff 0.01, extent 11.43,-8 15.24,-1
3D body: height 3, standoff -3.4, extent 12.935,-0.4 13.735,0.4
3D body: height 3.4, standoff 2.6, extent 12.935,-7 13.735,0.4
3D body: height 7.25, standoff 0, extent 11.43,-1 15.24,1.2
3D body: height 7.26, standoff 0.01, extent 7.62,-8 11.43,-1
3D body: height 3, standoff -3.4, extent 9.125,-0.4 9.925,0.4
3D body: height 3.4, standoff 2.6, extent 9.125,-7 9.925,0.4
3D body: height 7.25, standoff 0, extent 7.62,-1 11.43,1.2
3D body: height 7.26, standoff 0.01, extent 3.81,-8 7.62,-1
3D body: height 3, standoff -3.4, extent 5.315,-0.4 6.115,0.4
3D body: height 3.4, standoff 2.6, extent 5.315,-7 6.115,0.4
3D body: height 7.25, standoff 0, extent 3.81,-1 7.62,1.2
3D body: height 7.26, standoff 0.01, extent -3.81,-8 0,-1
3D body: height 3, standoff -3.4, extent -2.305,-0.4 -1.505,0.4
3D body: height 3.4, standoff 2.6, extent -2.305,-7 -1.505,0.4
3D body: height 7.25, standoff 0, extent -3.81,-1 0,1.2
3D body: height 7.26, standoff 0.01, extent -7.62,-8 -3.81,-1
3D body: height 3, standoff -3.4, extent -6.115,-0.4 -5.315,0.4
3D body: height 3.4, standoff 2.6, extent -6.115,-7 -5.315,0.4
3D body: height 7.25, standoff 0, extent -7.62,-1 -3.81,1.2
3D body: height 7.26, standoff 0.01, extent -15.24,-8 -11.43,-1
3D body: height 3, standoff -3.4, extent -13.735,-0.4 -12.935,0.4
3D body: height 3.4, standoff 2.6, extent -13.735,-7 -12.935,0.4
3D body: height 7.25, standoff 0, extent -15.24,-1 -11.43,1.2
3D body: height 7.26, standoff 0.01, extent -19.05,-8 -15.24,-1
3D body: height 3, standoff -3.4, extent -17.545,-0.4 -16.745,0.4
3D body: height 3.4, standoff 2.6, extent -17.545,-7 -16.745,0.4
3D body: height 7.25, standoff 0, extent -19.05,-1 -15.24,1.2
3D body: height 7.26, standoff 0.01, extent -22.86,-8 -19.05,-1
3D body: height 3, standoff -3.4, extent -25.165,-0.4 -24.365,0.4
3D body: height 3, standoff -3.4, extent -21.355,-0.4 -20.555,0.4
3D body: height 3.4, standoff 2.6, extent -25.165,-7 -24.365,0.4
3D body: height 3.4, standoff 2.6, extent -21.355,-7 -20.555,0.4
3D body: height 7.25, standoff 0, extent -22.86,-1 -19.05,1.2
3D body: height 7.26, standoff 0.01, extent -26.67,-8 -22.86,-1
3D body: height 7.25, standoff 0, extent -26.67,-1 -22.86,1.2
3D body: height 7.25, standoff 0, extent -27.365,-8 -26.67,1.2
3D body: height 7.26, standoff 0.01, extent -11.43,-8 -7.62,-1
3D body: height 3, standoff -3.4, extent -9.925,-0.4 -9.125,0.4
3D body: height 3.4, standoff 2.6, extent -9.925,-7 -9.125,0.4
3D body: height 7.25, standoff 0, extent -11.43,-1 -7.62,1.2
3D body: height 7.26, standoff 0.01, extent 0,-8 3.81,-1
3D body: height 3, standoff -3.4, extent 1.505,-0.4 2.305,0.4
3D body: height 3.4, standoff 2.6, extent 1.505,-7 2.305,0.4
3D body: height 7.25, standoff 0, extent 0,-1 3.81,1.2
3D body: height 7.26, standoff 0.01, extent 19.05,-8 22.86,-1
3D body: height 3, standoff -3.4, extent 20.555,-0.4 21.355,0.4
3D body: height 3.4, standoff 2.6, extent 20.555,-7 21.355,0.4
3D body: height 7.25, standoff 0, extent 19.05,-1 22.86,1.2

## MC1.5/15-G-3.81 [mm] "Phoenix contact MC 1,5/ 15-G-3,81"
pads (15):
  round 1.7 hole 1.2: 1(-26.67,0) 2(-22.86,0) 3(-19.05,0) 4(-15.24,0) 5(-11.43,0) 6(-7.62,0) 7(-3.81,0) 8(0,0) 9(3.81,0) 10(7.62,0) 11(11.43,0) 12(15.24,0) 13(19.05,0) 14(22.86,0) 15(26.67,0)
Top Overlay:
  lines w0.2: -29.27,-8 -28.575,-8 -24.765,-8 -20.955,-8 -17.145,-8 -13.335,-8 -9.525,-8 -5.715,-8 -1.905,-8 1.905,-8 5.715,-8 9.525,-8 13.335,-8 17.145,-8 20.955,-8 24.765,-8 28.575,-8 29.27,-8 29.27,1.2 28.575,1.2 24.765,1.2 20.955,1.2 17.145,1.2 13.335,1.2 9.525,1.2 5.715,1.2 1.905,1.2 -1.905,1.2 -5.715,1.2 -9.525,1.2 -13.335,1.2 -17.145,1.2 -20.955,1.2 -24.765,1.2 -28.575,1.2 -29.27,1.2 -29.27,-8
  text "1" at -27.313,2.036 h2
Bottom Overlay:
  text "1" at -27.313,1.064 h2
3D body: height 7.26, standoff 0.01, extent 24.765,-8 28.575,-1
3D body: height 3, standoff -3.4, extent 26.27,-0.4 27.07,0.4
3D body: height 3.4, standoff 2.6, extent 26.27,-7 27.07,0.4
3D body: height 7.25, standoff 0, extent 24.765,-1 28.575,1.2
3D body: height 7.26, standoff 0.01, extent 20.955,-8 24.765,-1
3D body: height 3, standoff -3.4, extent 22.46,-0.4 23.26,0.4
3D body: height 3.4, standoff 2.6, extent 22.46,-7 23.26,0.4
3D body: height 7.25, standoff 0, extent 20.955,-1 24.765,1.2
3D body: height 7.25, standoff 0, extent 28.575,-8 29.27,1.2
3D body: height 7.26, standoff 0.01, extent 13.335,-8 17.145,-1
3D body: height 3, standoff -3.4, extent 14.84,-0.4 15.64,0.4
3D body: height 3.4, standoff 2.6, extent 14.84,-7 15.64,0.4
3D body: height 7.25, standoff 0, extent 13.335,-1 17.145,1.2
3D body: height 7.26, standoff 0.01, extent 9.525,-8 13.335,-1
3D body: height 3, standoff -3.4, extent 11.03,-0.4 11.83,0.4
3D body: height 3.4, standoff 2.6, extent 11.03,-7 11.83,0.4
3D body: height 7.25, standoff 0, extent 9.525,-1 13.335,1.2
3D body: height 7.26, standoff 0.01, extent 5.715,-8 9.525,-1
3D body: height 3, standoff -3.4, extent 7.22,-0.4 8.02,0.4
3D body: height 3.4, standoff 2.6, extent 7.22,-7 8.02,0.4
3D body: height 7.25, standoff 0, extent 5.715,-1 9.525,1.2
3D body: height 7.26, standoff 0.01, extent 1.905,-8 5.715,-1
3D body: height 3, standoff -3.4, extent 3.41,-0.4 4.21,0.4
3D body: height 3.4, standoff 2.6, extent 3.41,-7 4.21,0.4
3D body: height 7.25, standoff 0, extent 1.905,-1 5.715,1.2
3D body: height 7.26, standoff 0.01, extent -5.715,-8 -1.905,-1
3D body: height 3, standoff -3.4, extent -4.21,-0.4 -3.41,0.4
3D body: height 3.4, standoff 2.6, extent -4.21,-7 -3.41,0.4
3D body: height 7.25, standoff 0, extent -5.715,-1 -1.905,1.2
3D body: height 7.26, standoff 0.01, extent -9.525,-8 -5.715,-1
3D body: height 3, standoff -3.4, extent -8.02,-0.4 -7.22,0.4
3D body: height 3.4, standoff 2.6, extent -8.02,-7 -7.22,0.4
3D body: height 7.25, standoff 0, extent -9.525,-1 -5.715,1.2
3D body: height 7.26, standoff 0.01, extent -17.145,-8 -13.335,-1
3D body: height 3, standoff -3.4, extent -15.64,-0.4 -14.84,0.4
3D body: height 3.4, standoff 2.6, extent -15.64,-7 -14.84,0.4
3D body: height 7.25, standoff 0, extent -17.145,-1 -13.335,1.2
3D body: height 7.26, standoff 0.01, extent -20.955,-8 -17.145,-1
3D body: height 3, standoff -3.4, extent -19.45,-0.4 -18.65,0.4
3D body: height 3.4, standoff 2.6, extent -19.45,-7 -18.65,0.4
3D body: height 7.25, standoff 0, extent -20.955,-1 -17.145,1.2
3D body: height 7.26, standoff 0.01, extent -24.765,-8 -20.955,-1
3D body: height 3, standoff -3.4, extent -27.07,-0.4 -26.27,0.4
3D body: height 3, standoff -3.4, extent -23.26,-0.4 -22.46,0.4
3D body: height 3.4, standoff 2.6, extent -27.07,-7 -26.27,0.4
3D body: height 3.4, standoff 2.6, extent -23.26,-7 -22.46,0.4
3D body: height 7.25, standoff 0, extent -24.765,-1 -20.955,1.2
3D body: height 7.26, standoff 0.01, extent -28.575,-8 -24.765,-1
3D body: height 7.25, standoff 0, extent -28.575,-1 -24.765,1.2
3D body: height 7.25, standoff 0, extent -29.27,-8 -28.575,1.2
3D body: height 7.26, standoff 0.01, extent -13.335,-8 -9.525,-1
3D body: height 3, standoff -3.4, extent -11.83,-0.4 -11.03,0.4
3D body: height 3.4, standoff 2.6, extent -11.83,-7 -11.03,0.4
3D body: height 7.25, standoff 0, extent -13.335,-1 -9.525,1.2
3D body: height 7.26, standoff 0.01, extent -1.905,-8 1.905,-1
3D body: height 3, standoff -3.4, extent -0.4,-0.4 0.4,0.4
3D body: height 3.4, standoff 2.6, extent -0.4,-7 0.4,0.4
3D body: height 7.25, standoff 0, extent -1.905,-1 1.905,1.2
3D body: height 7.26, standoff 0.01, extent 17.145,-8 20.955,-1
3D body: height 3, standoff -3.4, extent 18.65,-0.4 19.45,0.4
3D body: height 3.4, standoff 2.6, extent 18.65,-7 19.45,0.4
3D body: height 7.25, standoff 0, extent 17.145,-1 20.955,1.2

## MC1.5/16-G-3.81 [mm] "Phoenix contact MC 1,5/ 16-G-3,81"
pads (16):
  round 1.7 hole 1.2: 1(-28.575,0) 2(-24.765,0) 3(-20.955,0) 4(-17.145,0) 5(-13.335,0) 6(-9.525,0) 7(-5.715,0) 8(-1.905,0) 9(1.905,0) 10(5.715,0) 11(9.525,0) 12(13.335,0) 13(17.145,0) 14(20.955,0) 15(24.765,0) 16(28.575,0)
Top Overlay:
  lines w0.2: -31.175,-8 -30.48,-8 -26.67,-8 -22.86,-8 -19.05,-8 -15.24,-8 -11.43,-8 -7.62,-8 -3.81,-8 0,-8 3.81,-8 7.62,-8 11.43,-8 15.24,-8 19.05,-8 22.86,-8 26.67,-8 30.48,-8 31.175,-8 31.175,1.2 30.48,1.2 26.67,1.2 22.86,1.2 19.05,1.2 15.24,1.2 11.43,1.2 7.62,1.2 3.81,1.2 0,1.2 -3.81,1.2 -7.62,1.2 -11.43,1.2 -15.24,1.2 -19.05,1.2 -22.86,1.2 -26.67,1.2 -30.48,1.2 -31.175,1.2 -31.175,-8
  text "1" at -29.218,2.036 h2
Bottom Overlay:
  text "1" at -29.218,1.064 h2
3D body: height 7.26, standoff 0.01, extent 26.67,-8 30.48,-1
3D body: height 3, standoff -3.4, extent 28.175,-0.4 28.975,0.4
3D body: height 3.4, standoff 2.6, extent 28.175,-7 28.975,0.4
3D body: height 7.25, standoff 0, extent 26.67,-1 30.48,1.2
3D body: height 7.26, standoff 0.01, extent 22.86,-8 26.67,-1
3D body: height 3, standoff -3.4, extent 24.365,-0.4 25.165,0.4
3D body: height 3.4, standoff 2.6, extent 24.365,-7 25.165,0.4
3D body: height 7.25, standoff 0, extent 22.86,-1 26.67,1.2
3D body: height 7.26, standoff 0.01, extent 19.05,-8 22.86,-1
3D body: height 3, standoff -3.4, extent 20.555,-0.4 21.355,0.4
3D body: height 3.4, standoff 2.6, extent 20.555,-7 21.355,0.4
3D body: height 7.25, standoff 0, extent 19.05,-1 22.86,1.2
3D body: height 7.25, standoff 0, extent 30.48,-8 31.175,1.2
3D body: height 7.26, standoff 0.01, extent 11.43,-8 15.24,-1
3D body: height 3, standoff -3.4, extent 12.935,-0.4 13.735,0.4
3D body: height 3.4, standoff 2.6, extent 12.935,-7 13.735,0.4
3D body: height 7.25, standoff 0, extent 11.43,-1 15.24,1.2
3D body: height 7.26, standoff 0.01, extent 7.62,-8 11.43,-1
3D body: height 3, standoff -3.4, extent 9.125,-0.4 9.925,0.4
3D body: height 3.4, standoff 2.6, extent 9.125,-7 9.925,0.4
3D body: height 7.25, standoff 0, extent 7.62,-1 11.43,1.2
3D body: height 7.26, standoff 0.01, extent 3.81,-8 7.62,-1
3D body: height 3, standoff -3.4, extent 5.315,-0.4 6.115,0.4
3D body: height 3.4, standoff 2.6, extent 5.315,-7 6.115,0.4
3D body: height 7.25, standoff 0, extent 3.81,-1 7.62,1.2
3D body: height 7.26, standoff 0.01, extent 0,-8 3.81,-1
3D body: height 3, standoff -3.4, extent 1.505,-0.4 2.305,0.4
3D body: height 3.4, standoff 2.6, extent 1.505,-7 2.305,0.4
3D body: height 7.25, standoff 0, extent 0,-1 3.81,1.2
3D body: height 7.26, standoff 0.01, extent -7.62,-8 -3.81,-1
3D body: height 3, standoff -3.4, extent -6.115,-0.4 -5.315,0.4
3D body: height 3.4, standoff 2.6, extent -6.115,-7 -5.315,0.4
3D body: height 7.25, standoff 0, extent -7.62,-1 -3.81,1.2
3D body: height 7.26, standoff 0.01, extent -11.43,-8 -7.62,-1
3D body: height 3, standoff -3.4, extent -9.925,-0.4 -9.125,0.4
3D body: height 3.4, standoff 2.6, extent -9.925,-7 -9.125,0.4
3D body: height 7.25, standoff 0, extent -11.43,-1 -7.62,1.2
3D body: height 7.26, standoff 0.01, extent -19.05,-8 -15.24,-1
3D body: height 3, standoff -3.4, extent -17.545,-0.4 -16.745,0.4
3D body: height 3.4, standoff 2.6, extent -17.545,-7 -16.745,0.4
3D body: height 7.25, standoff 0, extent -19.05,-1 -15.24,1.2
3D body: height 7.26, standoff 0.01, extent -22.86,-8 -19.05,-1
3D body: height 3, standoff -3.4, extent -21.355,-0.4 -20.555,0.4
3D body: height 3.4, standoff 2.6, extent -21.355,-7 -20.555,0.4
3D body: height 7.25, standoff 0, extent -22.86,-1 -19.05,1.2
3D body: height 7.26, standoff 0.01, extent -26.67,-8 -22.86,-1
3D body: height 3, standoff -3.4, extent -28.975,-0.4 -28.175,0.4
3D body: height 3, standoff -3.4, extent -25.165,-0.4 -24.365,0.4
3D body: height 3.4, standoff 2.6, extent -28.975,-7 -28.175,0.4
3D body: height 3.4, standoff 2.6, extent -25.165,-7 -24.365,0.4
3D body: height 7.25, standoff 0, extent -26.67,-1 -22.86,1.2
3D body: height 7.26, standoff 0.01, extent -30.48,-8 -26.67,-1
3D body: height 7.25, standoff 0, extent -30.48,-1 -26.67,1.2
3D body: height 7.25, standoff 0, extent -31.175,-8 -30.48,1.2
3D body: height 7.26, standoff 0.01, extent -15.24,-8 -11.43,-1
3D body: height 3, standoff -3.4, extent -13.735,-0.4 -12.935,0.4
3D body: height 3.4, standoff 2.6, extent -13.735,-7 -12.935,0.4
3D body: height 7.25, standoff 0, extent -15.24,-1 -11.43,1.2
3D body: height 7.26, standoff 0.01, extent -3.81,-8 0,-1
3D body: height 3, standoff -3.4, extent -2.305,-0.4 -1.505,0.4
3D body: height 3.4, standoff 2.6, extent -2.305,-7 -1.505,0.4
3D body: height 7.25, standoff 0, extent -3.81,-1 0,1.2
3D body: height 7.26, standoff 0.01, extent 15.24,-8 19.05,-1
3D body: height 3, standoff -3.4, extent 16.745,-0.4 17.545,0.4
3D body: height 3.4, standoff 2.6, extent 16.745,-7 17.545,0.4
3D body: height 7.25, standoff 0, extent 15.24,-1 19.05,1.2

## MC1.5/17-G-3.81 [mm] "Phoenix contact MC 1,5/ 17-G-3,81"
pads (17):
  round 1.7 hole 1.2: 1(-30.48,0) 2(-26.67,0) 3(-22.86,0) 4(-19.05,0) 5(-15.24,0) 6(-11.43,0) 7(-7.62,0) 8(-3.81,0) 9(0,0) 10(3.81,0) 11(7.62,0) 12(11.43,0) 13(15.24,0) 14(19.05,0) 15(22.86,0) 16(26.67,0) 17(30.48,0)
Top Overlay:
  lines w0.2: -33.08,-8 -32.385,-8 -28.575,-8 -24.765,-8 -20.955,-8 -17.145,-8 -13.335,-8 -9.525,-8 -5.715,-8 -1.905,-8 1.905,-8 5.715,-8 9.525,-8 13.335,-8 17.145,-8 20.955,-8 24.765,-8 28.575,-8 32.385,-8 33.08,-8 33.08,1.2 32.385,1.2 28.575,1.2 24.765,1.2 20.955,1.2 17.145,1.2 13.335,1.2 9.525,1.2 5.715,1.2 1.905,1.2 -1.905,1.2 -5.715,1.2 -9.525,1.2 -13.335,1.2 -17.145,1.2 -20.955,1.2 -24.765,1.2 -28.575,1.2 -32.385,1.2 -33.08,1.2 -33.08,-8
  text "1" at -31.123,2.036 h2
Bottom Overlay:
  text "1" at -31.123,1.064 h2
3D body: height 7.26, standoff 0.01, extent 28.575,-8 32.385,-1
3D body: height 3, standoff -3.4, extent 30.08,-0.4 30.88,0.4
3D body: height 3.4, standoff 2.6, extent 30.08,-7 30.88,0.4
3D body: height 7.25, standoff 0, extent 28.575,-1 32.385,1.2
3D body: height 7.26, standoff 0.01, extent 24.765,-8 28.575,-1
3D body: height 3, standoff -3.4, extent 26.27,-0.4 27.07,0.4
3D body: height 3.4, standoff 2.6, extent 26.27,-7 27.07,0.4
3D body: height 7.25, standoff 0, extent 24.765,-1 28.575,1.2
3D body: height 7.26, standoff 0.01, extent 20.955,-8 24.765,-1
3D body: height 3, standoff -3.4, extent 22.46,-0.4 23.26,0.4
3D body: height 3.4, standoff 2.6, extent 22.46,-7 23.26,0.4
3D body: height 7.25, standoff 0, extent 20.955,-1 24.765,1.2
3D body: height 7.26, standoff 0.01, extent 17.145,-8 20.955,-1
3D body: height 3, standoff -3.4, extent 18.65,-0.4 19.45,0.4
3D body: height 3.4, standoff 2.6, extent 18.65,-7 19.45,0.4
3D body: height 7.25, standoff 0, extent 17.145,-1 20.955,1.2
3D body: height 7.25, standoff 0, extent 32.385,-8 33.08,1.2
3D body: height 7.26, standoff 0.01, extent 9.525,-8 13.335,-1
3D body: height 3, standoff -3.4, extent 11.03,-0.4 11.83,0.4
3D body: height 3.4, standoff 2.6, extent 11.03,-7 11.83,0.4
3D body: height 7.25, standoff 0, extent 9.525,-1 13.335,1.2
3D body: height 7.26, standoff 0.01, extent 5.715,-8 9.525,-1
3D body: height 3, standoff -3.4, extent 7.22,-0.4 8.02,0.4
3D body: height 3.4, standoff 2.6, extent 7.22,-7 8.02,0.4
3D body: height 7.25, standoff 0, extent 5.715,-1 9.525,1.2
3D body: height 7.26, standoff 0.01, extent 1.905,-8 5.715,-1
3D body: height 3, standoff -3.4, extent 3.41,-0.4 4.21,0.4
3D body: height 3.4, standoff 2.6, extent 3.41,-7 4.21,0.4
3D body: height 7.25, standoff 0, extent 1.905,-1 5.715,1.2
3D body: height 7.26, standoff 0.01, extent -1.905,-8 1.905,-1
3D body: height 3, standoff -3.4, extent -0.4,-0.4 0.4,0.4
3D body: height 3.4, standoff 2.6, extent -0.4,-7 0.4,0.4
3D body: height 7.25, standoff 0, extent -1.905,-1 1.905,1.2
3D body: height 7.26, standoff 0.01, extent -9.525,-8 -5.715,-1
3D body: height 3, standoff -3.4, extent -8.02,-0.4 -7.22,0.4
3D body: height 3.4, standoff 2.6, extent -8.02,-7 -7.22,0.4
3D body: height 7.25, standoff 0, extent -9.525,-1 -5.715,1.2
3D body: height 7.26, standoff 0.01, extent -13.335,-8 -9.525,-1
3D body: height 3, standoff -3.4, extent -11.83,-0.4 -11.03,0.4
3D body: height 3.4, standoff 2.6, extent -11.83,-7 -11.03,0.4
3D body: height 7.25, standoff 0, extent -13.335,-1 -9.525,1.2
3D body: height 7.26, standoff 0.01, extent -20.955,-8 -17.145,-1
3D body: height 3, standoff -3.4, extent -19.45,-0.4 -18.65,0.4
3D body: height 3.4, standoff 2.6, extent -19.45,-7 -18.65,0.4
3D body: height 7.25, standoff 0, extent -20.955,-1 -17.145,1.2
3D body: height 7.26, standoff 0.01, extent -24.765,-8 -20.955,-1
3D body: height 3, standoff -3.4, extent -23.26,-0.4 -22.46,0.4
3D body: height 3.4, standoff 2.6, extent -23.26,-7 -22.46,0.4
3D body: height 7.25, standoff 0, extent -24.765,-1 -20.955,1.2
3D body: height 7.26, standoff 0.01, extent -28.575,-8 -24.765,-1
3D body: height 3, standoff -3.4, extent -30.88,-0.4 -30.08,0.4
3D body: height 3, standoff -3.4, extent -27.07,-0.4 -26.27,0.4
3D body: height 3.4, standoff 2.6, extent -30.88,-7 -30.08,0.4
3D body: height 3.4, standoff 2.6, extent -27.07,-7 -26.27,0.4
3D body: height 7.25, standoff 0, extent -28.575,-1 -24.765,1.2
3D body: height 7.26, standoff 0.01, extent -32.385,-8 -28.575,-1
3D body: height 7.25, standoff 0, extent -32.385,-1 -28.575,1.2
3D body: height 7.25, standoff 0, extent -33.08,-8 -32.385,1.2
3D body: height 7.26, standoff 0.01, extent -17.145,-8 -13.335,-1
3D body: height 3, standoff -3.4, extent -15.64,-0.4 -14.84,0.4
3D body: height 3.4, standoff 2.6, extent -15.64,-7 -14.84,0.4
3D body: height 7.25, standoff 0, extent -17.145,-1 -13.335,1.2
3D body: height 7.26, standoff 0.01, extent -5.715,-8 -1.905,-1
3D body: height 3, standoff -3.4, extent -4.21,-0.4 -3.41,0.4
3D body: height 3.4, standoff 2.6, extent -4.21,-7 -3.41,0.4
3D body: height 7.25, standoff 0, extent -5.715,-1 -1.905,1.2
3D body: height 7.26, standoff 0.01, extent 13.335,-8 17.145,-1
3D body: height 3, standoff -3.4, extent 14.84,-0.4 15.64,0.4
3D body: height 3.4, standoff 2.6, extent 14.84,-7 15.64,0.4
3D body: height 7.25, standoff 0, extent 13.335,-1 17.145,1.2